# Altium schematic symbol library Amplifier_Instrumentation.SchLib: 36 symbols
Pins are listed as number, name and electrical type; pins without a type are passive.

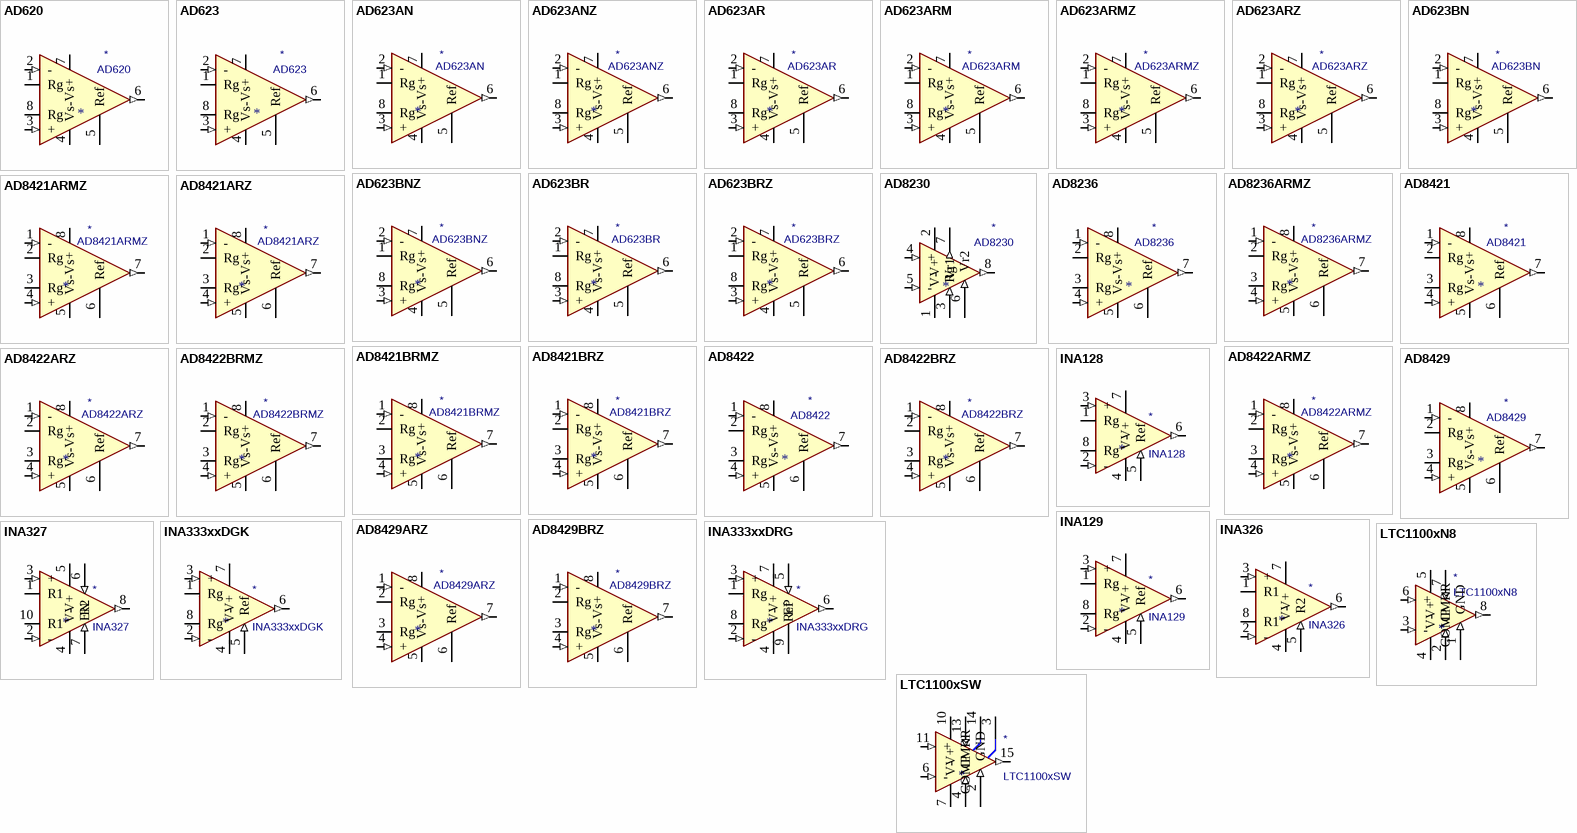
[diagram p0: symbols AD620 to LTC1100xSW]

## AD620
designator *  value AD620
ki_keywords: Instrumentation amplifier; ki_description: Low Cost, Low Power, Instrumentation Amplifier, DIP-8/SOIC-8; ki_fp_filters: SOIC*P1.27mm* DIP*W7.62mm*; Supplier: https://www.analog.com/media/en/technical-documentation/data-sheets/AD620.pdf
pins: 1 Rg, 2 - (in), 3 + (in), 4 Vs- (power), 5 Ref, 6 (out), 7 Vs+ (power), 8 Rg

## AD623
designator *  value AD623
ki_keywords: single instumentation amplifier; ki_description: Single Rail-to-Rail, Low Cost Instrumentation Amplifier, DIP-8/SOIC-8/MSOP-8; ki_fp_filters: SOIC*P1.27mm* DIP*W7.62mm*; Supplier: https://www.analog.com/media/en/technical-documentation/data-sheets/AD623.pdf
pins: 1 Rg, 2 - (in), 3 + (in), 4 Vs- (power), 5 Ref, 6 (out), 7 Vs+ (power), 8 Rg

## AD623AN
designator *  value AD623AN
ki_keywords: ad623 instumentation amplifier dip-8; ki_description: Single Supply, Rail to Rail, Instumentation Amplifier, DIP-8; ki_fp_filters: DIP-8*; Supplier: https://www.analog.com/media/en/technical-documentation/data-sheets/AD623.pdf
pins: 1 Rg, 2 - (in), 3 + (in), 4 Vs- (power), 5 Ref, 6 (out), 7 Vs+ (power), 8 Rg

## AD623ANZ
designator *  value AD623ANZ
ki_keywords: ad623 instumentation amplifier dip-8; ki_description: Single Supply, Rail to Rail, Instumentation Amplifier, RoHS, DIP-8; ki_fp_filters: DIP-8*; Supplier: https://www.analog.com/media/en/technical-documentation/data-sheets/AD623.pdf
pins: 1 Rg, 2 - (in), 3 + (in), 4 Vs- (power), 5 Ref, 6 (out), 7 Vs+ (power), 8 Rg

## AD623AR
designator *  value AD623AR
ki_keywords: ad623 instumentation amplifier soic-8; ki_description: Single Supply, Rail to Rail, Instumentation Amplifier, SOIC-8; ki_fp_filters: SOIC-8*; Supplier: https://www.analog.com/media/en/technical-documentation/data-sheets/AD623.pdf
pins: 1 Rg, 2 - (in), 3 + (in), 4 Vs- (power), 5 Ref, 6 (out), 7 Vs+ (power), 8 Rg

## AD623ARM
designator *  value AD623ARM
ki_keywords: ad623 instumentation amplifier msop-8; ki_description: Single Supply, Rail to Rail, Instumentation Amplifier, MSOP-8; ki_fp_filters: MSOP-8*; Supplier: https://www.analog.com/media/en/technical-documentation/data-sheets/AD623.pdf
pins: 1 Rg, 2 - (in), 3 + (in), 4 Vs- (power), 5 Ref, 6 (out), 7 Vs+ (power), 8 Rg

## AD623ARMZ
designator *  value AD623ARMZ
ki_keywords: ad623 instumentation amplifier msop-8; ki_description: Single Supply, Rail to Rail, Instumentation Amplifier, RoHS, MSOP-8; ki_fp_filters: MSOP-8*; Supplier: https://www.analog.com/media/en/technical-documentation/data-sheets/AD623.pdf
pins: 1 Rg, 2 - (in), 3 + (in), 4 Vs- (power), 5 Ref, 6 (out), 7 Vs+ (power), 8 Rg

## AD623ARZ
designator *  value AD623ARZ
ki_keywords: ad623 instumentation amplifier soic-8; ki_description: Single Supply, Rail to Rail, Instumentation Amplifier, RoHS, SOIC-8; ki_fp_filters: SOIC-8*; Supplier: https://www.analog.com/media/en/technical-documentation/data-sheets/AD623.pdf
pins: 1 Rg, 2 - (in), 3 + (in), 4 Vs- (power), 5 Ref, 6 (out), 7 Vs+ (power), 8 Rg

## AD623BN
designator *  value AD623BN
ki_keywords: ad623 instumentation amplifier dip-8; ki_description: Single Supply, Rail to Rail, Instumentation Amplifier, DIP-8; ki_fp_filters: DIP-8*; Supplier: https://www.analog.com/media/en/technical-documentation/data-sheets/AD623.pdf
pins: 1 Rg, 2 - (in), 3 + (in), 4 Vs- (power), 5 Ref, 6 (out), 7 Vs+ (power), 8 Rg

## AD623BNZ
designator *  value AD623BNZ
ki_keywords: ad623 instumentation amplifier dip-8; ki_description: Single Supply, Rail to Rail, Instumentation Amplifier, RoHS, DIP-8; ki_fp_filters: DIP-8*; Supplier: https://www.analog.com/media/en/technical-documentation/data-sheets/AD623.pdf
pins: 1 Rg, 2 - (in), 3 + (in), 4 Vs- (power), 5 Ref, 6 (out), 7 Vs+ (power), 8 Rg

## AD623BR
designator *  value AD623BR
ki_keywords: ad623 instumentation amplifier soic-8; ki_description: Single Supply, Rail to Rail, Instumentation Amplifier, SOIC-8; ki_fp_filters: SOIC-8*; Supplier: https://www.analog.com/media/en/technical-documentation/data-sheets/AD623.pdf
pins: 1 Rg, 2 - (in), 3 + (in), 4 Vs- (power), 5 Ref, 6 (out), 7 Vs+ (power), 8 Rg

## AD623BRZ
designator *  value AD623BRZ
ki_keywords: ad623 instumentation amplifier soic-8; ki_description: Single Supply, Rail to Rail, Instumentation Amplifier, RoHS, SOIC-8; ki_fp_filters: SOIC-8*; Supplier: https://www.analog.com/media/en/technical-documentation/data-sheets/AD623.pdf
pins: 1 Rg, 2 - (in), 3 + (in), 4 Vs- (power), 5 Ref, 6 (out), 7 Vs+ (power), 8 Rg

## AD8230
designator *  value AD8230
ki_keywords: single instrumentation amplifier; ki_description: 16V Rail-to-Rail, Zero-Drift, Precision Instrumentation Amplifier, SOIC-8; ki_fp_filters: SOIC*3.9x4.9mm*P1.27mm*; Footprint: Package_SO:SOIC-8_3.9x4.9mm_P1.27mm; Supplier: https://www.analog.com/media/en/technical-documentation/data-sheets/AD8230.pdf
footprint SOIC-8_3.9x4.9mm_P1.27mm
pins: 1 V- (power), 2 V+ (power), 3 Vr1 (in), 4 + (in), 5 - (in), 6 Vr2 (in), 7 Rg (out), 8 (out)

## AD8236
designator *  value AD8236
ki_keywords: single instumentation amplifier; ki_description: Single 40 μA Micropower Instrumentation Amplifier with Zero Crossover Distortion, MSOP-8; ki_fp_filters: SOIC*3.9x4.9mm*P1.27mm* MSOP*3x3mm*P0.65mm*; Supplier: https://www.analog.com/media/en/technical-documentation/data-sheets/AD8236.pdf
pins: 1 - (in), 2 Rg, 3 Rg, 4 + (in), 5 Vs- (power), 6 Ref, 7 (out), 8 Vs+ (power)

## AD8236ARMZ
designator *  value AD8236ARMZ
ki_keywords: ad8236 instumentation amplifier msop-8; ki_description: Micropower Instumentation Amplifier with Zero Crossover Distortion, MSOP-8; ki_fp_filters: MSOP-8*; Supplier: https://www.analog.com/media/en/technical-documentation/data-sheets/AD8236.pdf
pins: 1 - (in), 2 Rg, 3 Rg, 4 + (in), 5 Vs- (power), 6 Ref, 7 (out), 8 Vs+ (power)

## AD8421
designator *  value AD8421
ki_keywords: single instumentation amplifier; ki_description: Single Low Power Instrumentation Amplifier, SOIC-8/MSOP-8; ki_fp_filters: SOIC*3.9x4.9mm*P1.27mm* MSOP*3x3mm*P0.65mm*; Supplier: https://www.analog.com/media/en/technical-documentation/data-sheets/AD8421.pdf
pins: 1 - (in), 2 Rg, 3 Rg, 4 + (in), 5 Vs- (power), 6 Ref, 7 (out), 8 Vs+ (power)

## AD8421ARMZ
designator *  value AD8421ARMZ
ki_keywords: ad8421 instumentation amplifier msop-8; ki_description: Low Power,  Instumentation Amplifier, MSOP-8; ki_fp_filters: MSOP-8*; Supplier: https://www.analog.com/media/en/technical-documentation/data-sheets/AD8421.pdf
pins: 1 - (in), 2 Rg, 3 Rg, 4 + (in), 5 Vs- (power), 6 Ref, 7 (out), 8 Vs+ (power)

## AD8421ARZ
designator *  value AD8421ARZ
ki_keywords: ad8421 instumentation amplifier soic-8; ki_description: Low Power, Instumentation Amplifier, SOIC-8; ki_fp_filters: SOIC-8*; Supplier: https://www.analog.com/media/en/technical-documentation/data-sheets/AD8421.pdf
pins: 1 - (in), 2 Rg, 3 Rg, 4 + (in), 5 Vs- (power), 6 Ref, 7 (out), 8 Vs+ (power)

## AD8421BRMZ
designator *  value AD8421BRMZ
ki_keywords: ad8421 instumentation amplifier msop-8; ki_description: Low Power, Instumentation Amplifier, MSOP-8; ki_fp_filters: MSOP-8*; Supplier: https://www.analog.com/media/en/technical-documentation/data-sheets/AD8421.pdf
pins: 1 - (in), 2 Rg, 3 Rg, 4 + (in), 5 Vs- (power), 6 Ref, 7 (out), 8 Vs+ (power)

## AD8421BRZ
designator *  value AD8421BRZ
ki_keywords: ad8421 instumentation amplifier soic-8; ki_description: Low Power, Instumentation Amplifier, SOIC-8; ki_fp_filters: SOIC-8*; Supplier: https://www.analog.com/media/en/technical-documentation/data-sheets/AD8421.pdf
pins: 1 - (in), 2 Rg, 3 Rg, 4 + (in), 5 Vs- (power), 6 Ref, 7 (out), 8 Vs+ (power)

## AD8422
designator *  value AD8422
ki_keywords: single instumentation amplifier; ki_description: Single High Performance, Low Power, Rail-to-Rail Precision Instrumentation Amplifier, SOIC-8/MSOP-8; ki_fp_filters: SOIC*3.9x4.9mm*P1.27mm* MSOP*3x3mm*P0.65mm*; Supplier: https://www.analog.com/media/en/technical-documentation/data-sheets/AD8422.pdf
pins: 1 - (in), 2 Rg, 3 Rg, 4 + (in), 5 Vs- (power), 6 Ref, 7 (out), 8 Vs+ (power)

## AD8422ARMZ
designator *  value AD8422ARMZ
ki_keywords: ad8422 instumentation amplifier msop-8; ki_description: Low Power, Rail to Rail, Instumentation Amplifier, MSOP-8; ki_fp_filters: MSOP-8*; Supplier: https://www.analog.com/media/en/technical-documentation/data-sheets/AD8422.pdf
pins: 1 - (in), 2 Rg, 3 Rg, 4 + (in), 5 Vs- (power), 6 Ref, 7 (out), 8 Vs+ (power)

## AD8422ARZ
designator *  value AD8422ARZ
ki_keywords: ad8422 instumentation amplifier soic-8; ki_description: Low Power, Rail to Rail, Instumentation Amplifier, SOIC-8; ki_fp_filters: SOIC-8*; Supplier: https://www.analog.com/media/en/technical-documentation/data-sheets/AD8422.pdf
pins: 1 - (in), 2 Rg, 3 Rg, 4 + (in), 5 Vs- (power), 6 Ref, 7 (out), 8 Vs+ (power)

## AD8422BRMZ
designator *  value AD8422BRMZ
ki_keywords: ad8422 instumentation amplifier msop-8; ki_description: Low Power, Rail to Rail, Instumentation Amplifier, MSOP-8; ki_fp_filters: MSOP-8*; Supplier: https://www.analog.com/media/en/technical-documentation/data-sheets/AD8422.pdf
pins: 1 - (in), 2 Rg, 3 Rg, 4 + (in), 5 Vs- (power), 6 Ref, 7 (out), 8 Vs+ (power)

## AD8422BRZ
designator *  value AD8422BRZ
ki_keywords: ad8422 instumentation amplifier soic-8; ki_description: Low Power, Rail to Rail, Instumentation Amplifier, SOIC-8; ki_fp_filters: SOIC-8*; Supplier: https://www.analog.com/media/en/technical-documentation/data-sheets/AD8422.pdf
pins: 1 - (in), 2 Rg, 3 Rg, 4 + (in), 5 Vs- (power), 6 Ref, 7 (out), 8 Vs+ (power)

## AD8429
designator *  value AD8429
ki_keywords: single instumentation amplifier; ki_description: Single Low Noise Instrumentation Amplifier, SOIC-8; ki_fp_filters: SOIC*3.9x4.9mm*P1.27mm* MSOP*3x3mm*P0.65mm*; Supplier: https://www.analog.com/media/en/technical-documentation/data-sheets/AD8429.pdf
pins: 1 - (in), 2 Rg, 3 Rg, 4 + (in), 5 Vs- (power), 6 Ref, 7 (out), 8 Vs+ (power)

## AD8429ARZ
designator *  value AD8429ARZ
ki_keywords: ad8429 instumentation amplifier soic-8; ki_description: Low Noise, Instumentation Amplifier, SOIC-8; ki_fp_filters: SOIC-8*; Supplier: https://www.analog.com/media/en/technical-documentation/data-sheets/AD8429.pdf
pins: 1 - (in), 2 Rg, 3 Rg, 4 + (in), 5 Vs- (power), 6 Ref, 7 (out), 8 Vs+ (power)

## AD8429BRZ
designator *  value AD8429BRZ
ki_keywords: ad8429 instumentation amplifier soic-8; ki_description: Low Noise, Instumentation Amplifier, SOIC-8; ki_fp_filters: SOIC-8*; Supplier: https://www.analog.com/media/en/technical-documentation/data-sheets/AD8429.pdf
pins: 1 - (in), 2 Rg, 3 Rg, 4 + (in), 5 Vs- (power), 6 Ref, 7 (out), 8 Vs+ (power)

## INA128
designator *  value INA128
ki_keywords: instrumentation opamp; ki_description: Precision, Low Power Instrumentation Amplifier G = 1 + 50kOhm/Rg, DIP-8/SOIC-8; ki_fp_filters: DIP*W7.62mm* SOIC*P1.27mm*; Supplier: http://www.ti.com/lit/ds/symlink/ina128.pdf
pins: 1 Rg, 2 - (in), 3 + (in), 4 V- (power), 5 Ref (in), 6 (out), 7 V+ (power), 8 Rg

## INA129
designator *  value INA129
ki_keywords: instrumentation opamp; ki_description: Precision, Low Power Instrumentation Amplifier G = 1 + 49.4kOhm/Rg, DIP-8/SOIC-8; ki_fp_filters: DIP*W7.62mm* SOIC*P1.27mm*; Supplier: http://www.ti.com/lit/ds/symlink/ina128.pdf
pins: 1 Rg, 2 - (in), 3 + (in), 4 V- (power), 5 Ref (in), 6 (out), 7 V+ (power), 8 Rg

## INA326
designator *  value INA326
ki_keywords: instrumentation opamp; ki_description: Precision, Rail-to-Rail I/O Instrumentation Amplifier, MSOP-8 package; ki_fp_filters: MSOP*3x3mm*P0.65mm*; Footprint: Package_SO:MSOP-8_3x3mm_P0.65mm; Supplier: http://www.ti.com/lit/ds/symlink/ina326.pdf
footprint MSOP-8_3x3mm_P0.65mm
pins: 1 R1, 2 - (in), 3 + (in), 4 V- (power), 5 R2 (in), 6 (out), 7 V+ (power), 8 R1

## INA327
designator *  value INA327
ki_keywords: instrumentation opamp; ki_description: Precision, Rail-to-Rail I/O Instrumentation Amplifier, MSOP-10 package; ki_fp_filters: MSOP*3x3mm*P0.5mm*; Footprint: Package_SO:MSOP-10_3x3mm_P0.5mm; Supplier: http://www.ti.com/lit/ds/symlink/ina326.pdf
footprint MSOP-10_3x3mm_P0.5mm
pins: 1 R1, 2 - (in), 3 + (in), 4 V- (power), 5 V+ (power), 6 EN (in), 7 R2 (in), 8 (out), 9 V+ hidden, 10 R1

## INA333xxDGK
designator *  value INA333xxDGK
ki_keywords: instrumentation opamp amplifier; ki_description: Zero Drift, Micropower Instrumentation Amplifier G = 1 + 100kOhm/Rg, VSSOP-8; ki_fp_filters: VSSOP*3.0x3.0mm*P0.65mm*; Footprint: Package_SO:VSSOP-8_3.0x3.0mm_P0.65mm; Supplier: https://www.ti.com/lit/ds/symlink/ina333.pdf
footprint VSSOP-8_3.0x3.0mm_P0.65mm
pins: 1 Rg, 2 - (in), 3 + (in), 4 V- (power), 5 Ref (in), 6 (out), 7 V+ (power), 8 Rg

## INA333xxDRG
designator *  value INA333xxDRG
ki_keywords: instrumentation opamp amplifier; ki_description: Zero Drift, Micropower Instrumentation Amplifier G = 1 + 100kOhm/Rg, WSON-8; ki_fp_filters: WSON*3x3mm*P0.5mm*; Footprint: Package_SON:WSON-8-1EP_3x3mm_P0.5mm_EP1.45x2.4mm; Supplier: https://www.ti.com/lit/ds/symlink/ina333.pdf
footprint WSON-8-1EP_3x3mm_P0.5mm_EP1.45x2.4mm
pins: 1 Rg, 2 - (in), 3 + (in), 4 V- (power), 5 Ref (in), 6 (out), 7 V+ (power), 8 Rg, 9 EP

## LTC1100xN8
designator *  value LTC1100xN8
ki_keywords: single instrumentation amp; ki_description: Single Precision, Zero-Drift Instrumentation Amplifier, Gain = 100, DIP-8; ki_fp_filters: DIP*W7.62mm*; Footprint: Package_DIP:DIP-8_W7.62mm; Supplier: https://www.analog.com/media/en/technical-documentation/data-sheets/1100fc.pdf
footprint DIP-8_W7.62mm
pins: 1 GND (in), 2 CMRR (in), 3 - (in), 4 V- (power), 5 V+ (power), 6 + (in), 7 COMP (in), 8 (out)

## LTC1100xSW
designator *  value LTC1100xSW
ki_keywords: single instrumentation amp; ki_description: Single Precision, Zero-Drift Instrumentation Amplifier, Gain = 10/100, SOIC-16W; ki_fp_filters: SOIC*7.5x10.3mm*P1.27mm*; Footprint: Package_SO:SOIC-16W_7.5x10.3mm_P1.27mm; Supplier: https://www.analog.com/media/en/technical-documentation/data-sheets/1100fc.pdf
footprint SOIC-16W_7.5x10.3mm_P1.27mm
pins: 1 NC (in) hidden, 2 GND (in), 3, 4 CMRR (in), 5 NC (in) hidden, 6 - (in), 7 V- (power), 8 NC (in) hidden, 9 NC (in) hidden, 10 V+ (power), 11 + (in), 12 NC (in) hidden, 13 COMP (in), 14, 15 (out), 16 NC (in) hidden